# Altium footprint library lsi-computer-systems.PCBLIB: 12 footprints
Each footprint in its own frame and in the unit in brackets; x right, y up, seen from the top. Pads: shape width x height; smd on the part's side, far side on the other; paste and mask are expansions set on the pad; w line width, h text height; cw(c..) or ccw(c..) is an arc to the next point about the centre after c.
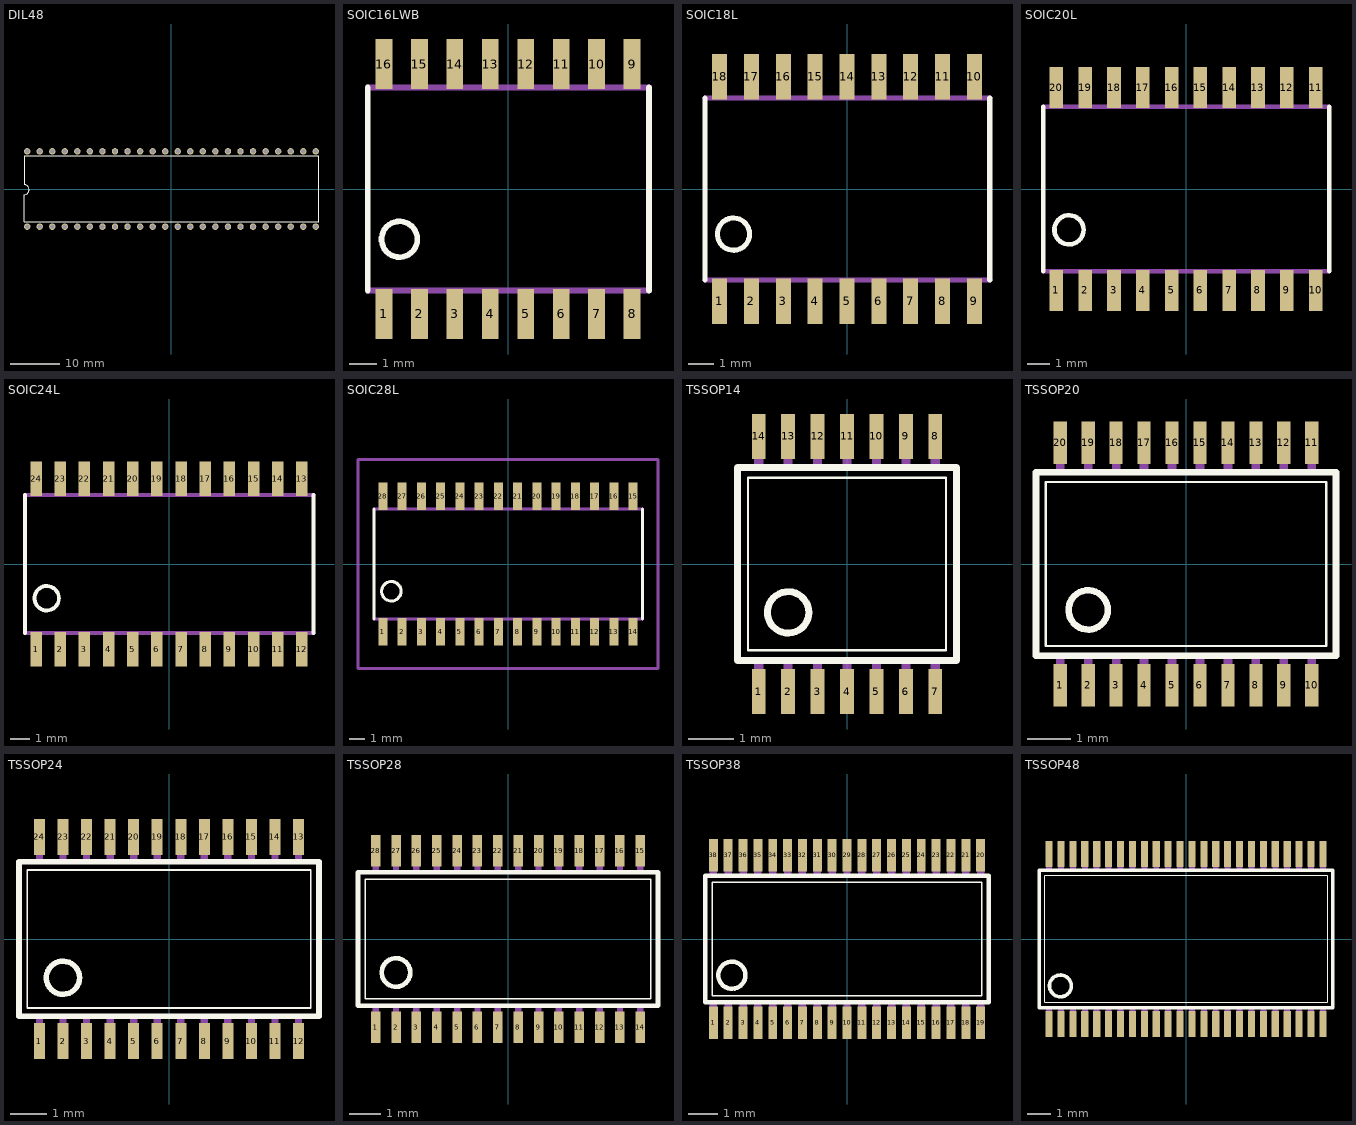
[diagram p0: the footprints below, top view; thin cyan lines are the x and y axes]

## DIL48 [mm]
pads (48):
  round 1.3 hole 0.9: 1(-29.21,-7.62) 2(-26.67,-7.62) 3(-24.13,-7.62) 4(-21.59,-7.62) 5(-19.05,-7.62) 6(-16.51,-7.62) 7(-13.97,-7.62) 8(-11.43,-7.62) 9(-8.89,-7.62) 10(-6.35,-7.62) 11(-3.81,-7.62) 12(-1.27,-7.62) 13(1.27,-7.62) 14(3.81,-7.62) 15(6.35,-7.62) 16(8.89,-7.62) 17(11.43,-7.62) 18(13.97,-7.62) 19(16.51,-7.62) 20(19.05,-7.62) 21(21.59,-7.62) 22(24.13,-7.62) 23(26.67,-7.62) 24(29.21,-7.62) 25(29.21,7.62) 26(26.67,7.62) 27(24.13,7.62) 28(21.59,7.62) 29(19.05,7.62) 30(16.51,7.62) 31(13.97,7.62) 32(11.43,7.62) 33(8.89,7.62) 34(6.35,7.62) 35(3.81,7.62) 36(1.27,7.62) 37(-1.27,7.62) 38(-3.81,7.62) 39(-6.35,7.62) 40(-8.89,7.62) 41(-11.43,7.62) 42(-13.97,7.62) 43(-16.51,7.62) 44(-19.05,7.62) 45(-21.59,7.62) 46(-24.13,7.62) 47(-26.67,7.62) 48(-29.21,7.62)
Top Overlay:
  lines w0.152: -29.845,-6.604 29.845,-6.604 29.845,6.604 -29.845,6.604 -29.845,0.889 cw(c-29.845,-0.127) -29.845,-1.143 -29.845,-6.604

## SOIC16LWB [mm]
pads (16):
  rect 0.6x1.8 smd: 1(-4.445,-4.475) 2(-3.175,-4.475) 3(-1.905,-4.475) 4(-0.635,-4.475) 5(0.635,-4.475) 6(1.905,-4.475) 7(3.175,-4.475) 8(4.445,-4.475) 9(4.445,4.475) 10(3.175,4.475) 11(1.905,4.475) 12(0.635,4.475) 13(-0.635,4.475) 14(-1.905,4.475) 15(-3.175,4.475) 16(-4.445,4.475)
Top Overlay:
  circle w0.203: c-3.89,-1.8 r0.643
  lines w0.203: -5.03,-3.635 -5.03,3.635 ; 5.055,-3.635 5.055,3.635
Mechanical 16:
  rectangle: -4.695,-5.065 -4.195,-3.735
  rectangle: -3.425,-5.065 -2.925,-3.735
  rectangle: -2.155,-5.065 -1.655,-3.735
  rectangle: -0.885,-5.065 -0.385,-3.735
  rectangle: 0.385,-5.065 0.885,-3.735
  rectangle: 1.655,-5.065 2.155,-3.735
  rectangle: 2.925,-5.065 3.425,-3.735
  rectangle: 4.195,-5.065 4.695,-3.735
  region: 4.695,5.065 4.195,5.065 4.195,3.735 4.695,3.735
  region: 3.425,5.065 2.925,5.065 2.925,3.735 3.425,3.735
  region: 2.155,5.065 1.655,5.065 1.655,3.735 2.155,3.735
  region: 0.885,5.065 0.385,5.065 0.385,3.735 0.885,3.735
  region: -0.385,5.065 -0.885,5.065 -0.885,3.735 -0.385,3.735
  region: -1.655,5.065 -2.155,5.065 -2.155,3.735 -1.655,3.735
  rectangle: -3.425,3.735 -2.925,5.065
  rectangle: -4.695,3.735 -4.195,5.065
  lines w0.203: -5.03,-3.635 5.055,-3.635 ; -5.03,3.635 5.055,3.635

## SOIC18L [mm]
pads (18):
  rect 0.6x1.8 smd: 1(-5.08,-4.475) 2(-3.81,-4.475) 3(-2.54,-4.475) 4(-1.27,-4.475) 5(0,-4.475) 6(1.27,-4.475) 7(2.54,-4.475) 8(3.81,-4.475) 9(5.08,-4.475) 10(5.08,4.475) 11(3.81,4.475) 12(2.54,4.475) 13(1.27,4.475) 14(0,4.475) 15(-1.27,4.475) 16(-2.54,4.475) 17(-3.81,4.475) 18(-5.08,4.475)
Top Overlay:
  circle w0.203: c-4.525,-1.8 r0.643
  lines w0.203: -5.665,-3.635 -5.665,3.635 ; 5.69,-3.635 5.69,3.635
Mechanical 16:
  rectangle: -5.33,-5.065 -4.83,-3.735
  rectangle: -4.06,-5.065 -3.56,-3.735
  rectangle: -2.79,-5.065 -2.29,-3.735
  rectangle: -1.52,-5.065 -1.02,-3.735
  rectangle: -0.25,-5.065 0.25,-3.735
  rectangle: 1.02,-5.065 1.52,-3.735
  rectangle: 2.29,-5.065 2.79,-3.735
  rectangle: 3.56,-5.065 4.06,-3.735
  rectangle: 4.83,-5.065 5.33,-3.735
  region: 5.33,5.065 4.83,5.065 4.83,3.735 5.33,3.735
  region: 4.06,5.065 3.56,5.065 3.56,3.735 4.06,3.735
  region: 2.79,5.065 2.29,5.065 2.29,3.735 2.79,3.735
  region: 1.52,5.065 1.02,5.065 1.02,3.735 1.52,3.735
  region: 0.25,5.065 -0.25,5.065 -0.25,3.735 0.25,3.735
  rectangle: -1.52,3.735 -1.02,5.065
  rectangle: -2.79,3.735 -2.29,5.065
  rectangle: -4.06,3.735 -3.56,5.065
  rectangle: -5.33,3.735 -4.83,5.065
  lines w0.203: -5.665,-3.635 5.69,-3.635 ; -5.665,3.635 5.69,3.635

## SOIC20L [mm]
pads (20):
  rect 0.6x1.8 smd: 1(-5.715,-4.475) 2(-4.445,-4.475) 3(-3.175,-4.475) 4(-1.905,-4.475) 5(-0.635,-4.475) 6(0.635,-4.475) 7(1.905,-4.475) 8(3.175,-4.475) 9(4.445,-4.475) 10(5.715,-4.475) 11(5.715,4.475) 12(4.445,4.475) 13(3.175,4.475) 14(1.905,4.475) 15(0.635,4.475) 16(-0.635,4.475) 17(-1.905,4.475) 18(-3.175,4.475) 19(-4.445,4.475) 20(-5.715,4.475)
Top Overlay:
  circle w0.203: c-5.16,-1.8 r0.643
  lines w0.203: -6.3,-3.635 -6.3,3.635 ; 6.325,-3.635 6.325,3.635
Mechanical 16:
  rectangle: -5.965,-5.065 -5.465,-3.735
  rectangle: -4.695,-5.065 -4.195,-3.735
  rectangle: -3.425,-5.065 -2.925,-3.735
  rectangle: -2.155,-5.065 -1.655,-3.735
  rectangle: -0.885,-5.065 -0.385,-3.735
  rectangle: 0.385,-5.065 0.885,-3.735
  rectangle: 1.655,-5.065 2.155,-3.735
  rectangle: 2.925,-5.065 3.425,-3.735
  rectangle: 4.195,-5.065 4.695,-3.735
  rectangle: 5.465,-5.065 5.965,-3.735
  region: 5.965,5.065 5.465,5.065 5.465,3.735 5.965,3.735
  region: 4.695,5.065 4.195,5.065 4.195,3.735 4.695,3.735
  region: 3.425,5.065 2.925,5.065 2.925,3.735 3.425,3.735
  region: 2.155,5.065 1.655,5.065 1.655,3.735 2.155,3.735
  rectangle: 0.385,3.735 0.885,5.065
  rectangle: -0.885,3.735 -0.385,5.065
  rectangle: -2.155,3.735 -1.655,5.065
  rectangle: -3.425,3.735 -2.925,5.065
  rectangle: -4.695,3.735 -4.195,5.065
  rectangle: -5.965,3.735 -5.465,5.065
  lines w0.203: -6.3,-3.635 6.325,-3.635 ; -6.3,3.635 6.325,3.635

## SOIC24L [mm]
pads (24):
  rect 0.6x1.8 smd: 1(-6.985,-4.475) 2(-5.715,-4.475) 3(-4.445,-4.475) 4(-3.175,-4.475) 5(-1.905,-4.475) 6(-0.635,-4.475) 7(0.635,-4.475) 8(1.905,-4.475) 9(3.175,-4.475) 10(4.445,-4.475) 11(5.715,-4.475) 12(6.985,-4.475) 13(6.985,4.475) 14(5.715,4.475) 15(4.445,4.475) 16(3.175,4.475) 17(1.905,4.475) 18(0.635,4.475) 19(-0.635,4.475) 20(-1.905,4.475) 21(-3.175,4.475) 22(-4.445,4.475) 23(-5.715,4.475) 24(-6.985,4.475)
Top Overlay:
  circle w0.203: c-6.43,-1.8 r0.643
  lines w0.203: -7.57,-3.635 -7.57,3.635 ; 7.595,-3.635 7.595,3.635
Mechanical 16:
  rectangle: -7.235,-5.065 -6.735,-3.735
  rectangle: -5.965,-5.065 -5.465,-3.735
  rectangle: -4.695,-5.065 -4.195,-3.735
  rectangle: -3.425,-5.065 -2.925,-3.735
  rectangle: -2.155,-5.065 -1.655,-3.735
  rectangle: -0.885,-5.065 -0.385,-3.735
  rectangle: 0.385,-5.065 0.885,-3.735
  rectangle: 1.655,-5.065 2.155,-3.735
  rectangle: 2.925,-5.065 3.425,-3.735
  rectangle: 4.195,-5.065 4.695,-3.735
  rectangle: 5.465,-5.065 5.965,-3.735
  rectangle: 6.735,-5.065 7.235,-3.735
  region: 7.235,5.065 6.735,5.065 6.735,3.735 7.235,3.735
  region: 5.965,5.065 5.465,5.065 5.465,3.735 5.965,3.735
  rectangle: 4.195,3.735 4.695,5.065
  rectangle: 2.925,3.735 3.425,5.065
  rectangle: 1.655,3.735 2.155,5.065
  rectangle: 0.385,3.735 0.885,5.065
  rectangle: -0.885,3.735 -0.385,5.065
  rectangle: -2.155,3.735 -1.655,5.065
  rectangle: -3.425,3.735 -2.925,5.065
  rectangle: -4.695,3.735 -4.195,5.065
  rectangle: -5.965,3.735 -5.465,5.065
  rectangle: -7.235,3.735 -6.735,5.065
  lines w0.203: -7.57,-3.635 7.595,-3.635 ; -7.57,3.635 7.595,3.635

## SOIC28L [mm]
pads (28):
  rect 0.6x1.8 smd: 1(-8.255,-4.475) 2(-6.985,-4.475) 3(-5.715,-4.475) 4(-4.445,-4.475) 5(-3.175,-4.475) 6(-1.905,-4.475) 7(-0.635,-4.475) 8(0.635,-4.475) 9(1.905,-4.475) 10(3.175,-4.475) 11(4.445,-4.475) 12(5.715,-4.475) 13(6.985,-4.475) 14(8.255,-4.475) 15(8.255,4.475) 16(6.985,4.475) 17(5.715,4.475) 18(4.445,4.475) 19(3.175,4.475) 20(1.905,4.475) 21(0.635,4.475) 22(-0.635,4.475) 23(-1.905,4.475) 24(-3.175,4.475) 25(-4.445,4.475) 26(-5.715,4.475) 27(-6.985,4.475) 28(-8.255,4.475)
Top Overlay:
  circle w0.203: c-7.7,-1.8 r0.643
  lines w0.203: -8.84,-3.635 -8.84,3.635 ; 8.865,-3.635 8.865,3.635
Mechanical 16:
  rectangle: -8.505,-5.065 -8.005,-3.735
  rectangle: -7.235,-5.065 -6.735,-3.735
  rectangle: -5.965,-5.065 -5.465,-3.735
  rectangle: -4.695,-5.065 -4.195,-3.735
  rectangle: -3.425,-5.065 -2.925,-3.735
  rectangle: -2.155,-5.065 -1.655,-3.735
  rectangle: -0.885,-5.065 -0.385,-3.735
  rectangle: 0.385,-5.065 0.885,-3.735
  rectangle: 1.655,-5.065 2.155,-3.735
  rectangle: 2.925,-5.065 3.425,-3.735
  rectangle: 4.195,-5.065 4.695,-3.735
  rectangle: 5.465,-5.065 5.965,-3.735
  rectangle: 6.735,-5.065 7.235,-3.735
  rectangle: 8.005,-5.065 8.505,-3.735
  rectangle: 8.005,3.735 8.505,5.065
  rectangle: 6.735,3.735 7.235,5.065
  rectangle: 5.465,3.735 5.965,5.065
  rectangle: 4.195,3.735 4.695,5.065
  rectangle: 2.925,3.735 3.425,5.065
  rectangle: 1.655,3.735 2.155,5.065
  rectangle: 0.385,3.735 0.885,5.065
  rectangle: -0.885,3.735 -0.385,5.065
  rectangle: -2.155,3.735 -1.655,5.065
  rectangle: -3.425,3.735 -2.925,5.065
  rectangle: -4.695,3.735 -4.195,5.065
  rectangle: -5.965,3.735 -5.465,5.065
  rectangle: -7.235,3.735 -6.735,5.065
  rectangle: -8.505,3.735 -8.005,5.065
  lines w0.203: -8.84,-3.635 8.865,-3.635 ; -8.84,3.635 8.865,3.635
Mechanical 27:
  lines w0.2: -9.9,-6.9 -9.9,6.9 9.9,6.9 9.9,-6.9 -9.9,-6.9

## TSSOP14 [mil]
pads (14):
  rect 12x39 smd: 1(-76.77,-110.94) 2(-51.18,-110.94) 3(-25.59,-110.94) 4(0,-110.94) 5(25.59,-110.94) 6(51.18,-110.94) 7(76.77,-110.94) 8(76.77,110.94) 9(51.18,110.94) 10(25.59,110.94) 11(0,110.94) 12(-25.59,110.94) 13(-51.18,110.94) 14(-76.77,110.94)
Top Overlay:
  circle w6: c-51.2,-42.09 r18
  lines w2: -86.06,-74.97 86.06,-74.97 86.06,74.97 -86.06,74.97 -86.06,-74.97
  lines w6: -95.06,-83.97 95.06,-83.97 95.06,83.97 -95.06,83.97 -95.06,-83.97
Mechanical 16:
  rectangle: -80.77,-125.98 -72.77,-83.97
  rectangle: -55.18,-125.98 -47.18,-83.97
  rectangle: -29.59,-125.98 -21.59,-83.97
  rectangle: -4,-125.98 4,-83.97
  rectangle: 21.59,-125.98 29.59,-83.97
  rectangle: 47.18,-125.98 55.18,-83.97
  rectangle: 72.77,-125.98 80.77,-83.97
  region: 80.77,125.98 72.77,125.98 72.77,83.97 80.77,83.97
  region: 55.18,125.98 47.18,125.98 47.18,83.97 55.18,83.97
  region: 29.59,125.98 21.59,125.98 21.59,83.97 29.59,83.97
  region: 4,125.98 -4,125.98 -4,83.97 4,83.97
  region: -21.59,125.98 -29.59,125.98 -29.59,83.97 -21.59,83.97
  region: -47.18,125.98 -55.18,125.98 -55.18,83.97 -47.18,83.97
  region: -72.77,125.98 -80.77,125.98 -80.77,83.97 -72.77,83.97

## TSSOP20 [mil]
pads (20):
  rect 12x39 smd: 1(-115.16,-110.94) 2(-89.57,-110.94) 3(-63.98,-110.94) 4(-38.39,-110.94) 5(-12.8,-110.94) 6(12.8,-110.94) 7(38.39,-110.94) 8(63.98,-110.94) 9(89.57,-110.94) 10(115.16,-110.94) 11(115.16,110.94) 12(89.57,110.94) 13(63.98,110.94) 14(38.39,110.94) 15(12.8,110.94) 16(-12.8,110.94) 17(-38.39,110.94) 18(-63.98,110.94) 19(-89.57,110.94) 20(-115.16,110.94)
Top Overlay:
  circle w6: c-89.59,-42.09 r18
  lines w2: -128.39,-74.97 128.39,-74.97 128.39,74.97 -128.39,74.97 -128.39,-74.97
  lines w6: -137.39,-83.97 137.39,-83.97 137.39,83.97 -137.39,83.97 -137.39,-83.97
Mechanical 16:
  rectangle: -119.16,-125.98 -111.16,-83.97
  rectangle: -93.57,-125.98 -85.57,-83.97
  rectangle: -67.98,-125.98 -59.98,-83.97
  rectangle: -42.39,-125.98 -34.39,-83.97
  rectangle: -16.8,-125.98 -8.8,-83.97
  rectangle: 8.8,-125.98 16.8,-83.97
  rectangle: 34.39,-125.98 42.39,-83.97
  rectangle: 59.98,-125.98 67.98,-83.97
  rectangle: 85.57,-125.98 93.57,-83.97
  rectangle: 111.16,-125.98 119.16,-83.97
  region: 119.16,125.98 111.16,125.98 111.16,83.97 119.16,83.97
  region: 93.57,125.98 85.57,125.98 85.57,83.97 93.57,83.97
  region: 67.98,125.98 59.98,125.98 59.98,83.97 67.98,83.97
  region: 42.39,125.98 34.39,125.98 34.39,83.97 42.39,83.97
  rectangle: 8.8,83.97 16.8,125.98
  rectangle: -16.8,83.97 -8.8,125.98
  rectangle: -42.39,83.97 -34.39,125.98
  rectangle: -67.98,83.97 -59.98,125.98
  rectangle: -93.57,83.97 -85.57,125.98
  rectangle: -119.16,83.97 -111.16,125.98

## TSSOP24 [mil]
pads (24):
  rect 12x39 smd: 1(-140.75,-110.94) 2(-115.16,-110.94) 3(-89.57,-110.94) 4(-63.98,-110.94) 5(-38.39,-110.94) 6(-12.8,-110.94) 7(12.8,-110.94) 8(38.39,-110.94) 9(63.98,-110.94) 10(89.57,-110.94) 11(115.16,-110.94) 12(140.75,-110.94) 13(140.75,110.94) 14(115.16,110.94) 15(89.57,110.94) 16(63.98,110.94) 17(38.39,110.94) 18(12.8,110.94) 19(-12.8,110.94) 20(-38.39,110.94) 21(-63.98,110.94) 22(-89.57,110.94) 23(-115.16,110.94) 24(-140.75,110.94)
Top Overlay:
  circle w6: c-115.18,-42.09 r18
  lines w2: -153.98,-74.97 153.98,-74.97 153.98,74.97 -153.98,74.97 -153.98,-74.97
  lines w6: -162.98,-83.97 162.98,-83.97 162.98,83.97 -162.98,83.97 -162.98,-83.97
Mechanical 16:
  rectangle: -144.75,-125.98 -136.75,-83.97
  rectangle: -119.16,-125.98 -111.16,-83.97
  rectangle: -93.57,-125.98 -85.57,-83.97
  rectangle: -67.98,-125.98 -59.98,-83.97
  rectangle: -42.39,-125.98 -34.39,-83.97
  rectangle: -16.8,-125.98 -8.8,-83.97
  rectangle: 8.8,-125.98 16.8,-83.97
  rectangle: 34.39,-125.98 42.39,-83.97
  rectangle: 59.98,-125.98 67.98,-83.97
  rectangle: 85.57,-125.98 93.57,-83.97
  rectangle: 111.16,-125.98 119.16,-83.97
  rectangle: 136.75,-125.98 144.75,-83.97
  region: 144.75,125.98 136.75,125.98 136.75,83.97 144.75,83.97
  region: 119.16,125.98 111.16,125.98 111.16,83.97 119.16,83.97
  rectangle: 85.57,83.97 93.57,125.98
  rectangle: 59.98,83.97 67.98,125.98
  rectangle: 34.39,83.97 42.39,125.98
  rectangle: 8.8,83.97 16.8,125.98
  rectangle: -16.8,83.97 -8.8,125.98
  rectangle: -42.39,83.97 -34.39,125.98
  rectangle: -67.98,83.97 -59.98,125.98
  rectangle: -93.57,83.97 -85.57,125.98
  rectangle: -119.16,83.97 -111.16,125.98
  rectangle: -144.75,83.97 -136.75,125.98

## TSSOP28 [mil]
pads (28):
  rect 12x39 smd: 1(-166.34,-110.94) 2(-140.75,-110.94) 3(-115.16,-110.94) 4(-89.57,-110.94) 5(-63.98,-110.94) 6(-38.39,-110.94) 7(-12.8,-110.94) 8(12.8,-110.94) 9(38.39,-110.94) 10(63.98,-110.94) 11(89.57,-110.94) 12(115.16,-110.94) 13(140.75,-110.94) 14(166.34,-110.94) 15(166.34,110.94) 16(140.75,110.94) 17(115.16,110.94) 18(89.57,110.94) 19(63.98,110.94) 20(38.39,110.94) 21(12.8,110.94) 22(-12.8,110.94) 23(-38.39,110.94) 24(-63.98,110.94) 25(-89.57,110.94) 26(-115.16,110.94) 27(-140.75,110.94) 28(-166.34,110.94)
Top Overlay:
  circle w6: c-140.77,-42.09 r18
  lines w2: -179.57,-74.97 179.57,-74.97 179.57,74.97 -179.57,74.97 -179.57,-74.97
  lines w6: -188.57,-83.97 188.57,-83.97 188.57,83.97 -188.57,83.97 -188.57,-83.97
Mechanical 16:
  rectangle: -170.34,-125.98 -162.34,-83.97
  rectangle: -144.75,-125.98 -136.75,-83.97
  rectangle: -119.16,-125.98 -111.16,-83.97
  rectangle: -93.57,-125.98 -85.57,-83.97
  rectangle: -67.98,-125.98 -59.98,-83.97
  rectangle: -42.39,-125.98 -34.39,-83.97
  rectangle: -16.8,-125.98 -8.8,-83.97
  rectangle: 8.8,-125.98 16.8,-83.97
  rectangle: 34.39,-125.98 42.39,-83.97
  rectangle: 59.98,-125.98 67.98,-83.97
  rectangle: 85.57,-125.98 93.57,-83.97
  rectangle: 111.16,-125.98 119.16,-83.97
  rectangle: 136.75,-125.98 144.75,-83.97
  rectangle: 162.34,-125.98 170.34,-83.97
  rectangle: 162.34,83.97 170.34,125.98
  rectangle: 136.75,83.97 144.75,125.98
  rectangle: 111.16,83.97 119.16,125.98
  rectangle: 85.57,83.97 93.57,125.98
  rectangle: 59.98,83.97 67.98,125.98
  rectangle: 34.39,83.97 42.39,125.98
  rectangle: 8.8,83.97 16.8,125.98
  rectangle: -16.8,83.97 -8.8,125.98
  rectangle: -42.39,83.97 -34.39,125.98
  rectangle: -67.98,83.97 -59.98,125.98
  rectangle: -93.57,83.97 -85.57,125.98
  rectangle: -119.16,83.97 -111.16,125.98
  rectangle: -144.75,83.97 -136.75,125.98
  rectangle: -170.34,83.97 -162.34,125.98

## TSSOP38 [mm]
pads (38):
  rect 0.3x1.1 smd: 1(-4.5,-2.825) 2(-4,-2.825) 3(-3.5,-2.825) 4(-3,-2.825) 5(-2.5,-2.825) 6(-2,-2.825) 7(-1.5,-2.825) 8(-1,-2.825) 9(-0.5,-2.825) 10(0,-2.825) 11(0.5,-2.825) 12(1,-2.825) 13(1.5,-2.825) 14(2,-2.825) 15(2.5,-2.825) 16(3,-2.825) 17(3.5,-2.825) 18(4,-2.825) 19(4.5,-2.825) 20(4.5,2.825) 21(4,2.825) 22(3.5,2.825) 23(3,2.825) 24(2.5,2.825) 25(2,2.825) 26(1.5,2.825) 27(1,2.825) 28(0.5,2.825) 29(0,2.825) 30(-0.5,2.825) 31(-1,2.825) 32(-1.5,2.825) 33(-2,2.825) 34(-2.5,2.825) 35(-3,2.825) 36(-3.5,2.825) 37(-4,2.825) 38(-4.5,2.825)
Top Overlay:
  circle w0.152: c-3.876,-1.219 r0.457
  lines w0.051: -4.536,-1.904 4.536,-1.904 4.536,1.904 -4.536,1.904 -4.536,-1.904
  lines w0.152: -4.765,-2.133 4.765,-2.133 4.765,2.133 -4.765,2.133 -4.765,-2.133
Mechanical 16:
  rectangle: -4.625,-3.2 -4.375,-2.133
  rectangle: -4.125,-3.2 -3.875,-2.133
  rectangle: -3.625,-3.2 -3.375,-2.133
  rectangle: -3.125,-3.2 -2.875,-2.133
  rectangle: -2.625,-3.2 -2.375,-2.133
  rectangle: -2.125,-3.2 -1.875,-2.133
  rectangle: -1.625,-3.2 -1.375,-2.133
  rectangle: -1.125,-3.2 -0.875,-2.133
  rectangle: -0.625,-3.2 -0.375,-2.133
  rectangle: -0.125,-3.2 0.125,-2.133
  rectangle: 0.375,-3.2 0.625,-2.133
  rectangle: 0.875,-3.2 1.125,-2.133
  rectangle: 1.375,-3.2 1.625,-2.133
  rectangle: 1.875,-3.2 2.125,-2.133
  rectangle: 2.375,-3.2 2.625,-2.133
  rectangle: 2.875,-3.2 3.125,-2.133
  rectangle: 3.375,-3.2 3.625,-2.133
  rectangle: 3.875,-3.2 4.125,-2.133
  rectangle: 4.375,-3.2 4.625,-2.133
  region: 4.625,3.2 4.375,3.2 4.375,2.133 4.625,2.133
  region: 4.125,3.2 3.875,3.2 3.875,2.133 4.125,2.133
  region: 3.625,3.2 3.375,3.2 3.375,2.133 3.625,2.133
  region: 3.125,3.2 2.875,3.2 2.875,2.133 3.125,2.133
  region: 2.625,3.2 2.375,3.2 2.375,2.133 2.625,2.133
  region: 2.125,3.2 1.875,3.2 1.875,2.133 2.125,2.133
  region: 1.625,3.2 1.375,3.2 1.375,2.133 1.625,2.133
  region: 1.125,3.2 0.875,3.2 0.875,2.133 1.125,2.133
  region: 0.625,3.2 0.375,3.2 0.375,2.133 0.625,2.133
  region: 0.125,3.2 -0.125,3.2 -0.125,2.133 0.125,2.133
  region: -0.375,3.2 -0.625,3.2 -0.625,2.133 -0.375,2.133
  region: -0.875,3.2 -1.125,3.2 -1.125,2.133 -0.875,2.133
  region: -1.375,3.2 -1.625,3.2 -1.625,2.133 -1.375,2.133
  region: -1.875,3.2 -2.125,3.2 -2.125,2.133 -1.875,2.133
  region: -2.375,3.2 -2.625,3.2 -2.625,2.133 -2.375,2.133
  region: -2.875,3.2 -3.125,3.2 -3.125,2.133 -2.875,2.133
  region: -3.375,3.2 -3.625,3.2 -3.625,2.133 -3.375,2.133
  region: -3.875,3.2 -4.125,3.2 -4.125,2.133 -3.875,2.133
  region: -4.375,3.2 -4.625,3.2 -4.625,2.133 -4.375,2.133

## TSSOP48 [mm]
pads (48):
  rect 0.3x1.1 smd: 1(-5.75,-3.575) 2(-5.25,-3.575) 3(-4.75,-3.575) 4(-4.25,-3.575) 5(-3.75,-3.575) 6(-3.25,-3.575) 7(-2.75,-3.575) 8(-2.25,-3.575) 9(-1.75,-3.575) 10(-1.25,-3.575) 11(-0.75,-3.575) 12(-0.25,-3.575) 13(0.25,-3.575) 14(0.75,-3.575) 15(1.25,-3.575) 16(1.75,-3.575) 17(2.25,-3.575) 18(2.75,-3.575) 19(3.25,-3.575) 20(3.75,-3.575) 21(4.25,-3.575) 22(4.75,-3.575) 23(5.25,-3.575) 24(5.75,-3.575) 25(5.75,3.575) 26(5.25,3.575) 27(4.75,3.575) 28(4.25,3.575) 29(3.75,3.575) 30(3.25,3.575) 31(2.75,3.575) 32(2.25,3.575) 33(1.75,3.575) 34(1.25,3.575) 35(0.75,3.575) 36(0.25,3.575) 37(-0.25,3.575) 38(-0.75,3.575) 39(-1.25,3.575) 40(-1.75,3.575) 41(-2.25,3.575) 42(-2.75,3.575) 43(-3.25,3.575) 44(-3.75,3.575) 45(-4.25,3.575) 46(-4.75,3.575) 47(-5.25,3.575) 48(-5.75,3.575)
Top Overlay:
  circle w0.152: c-5.276,-1.969 r0.457
  lines w0.051: -5.936,-2.654 5.936,-2.654 5.936,2.654 -5.936,2.654 -5.936,-2.654
  lines w0.152: -6.165,-2.883 6.165,-2.883 6.165,2.883 -6.165,2.883 -6.165,-2.883
Mechanical 16:
  rectangle: -5.875,-3.95 -5.625,-2.883
  rectangle: -5.375,-3.95 -5.125,-2.883
  rectangle: -4.875,-3.95 -4.625,-2.883
  rectangle: -4.375,-3.95 -4.125,-2.883
  rectangle: -3.875,-3.95 -3.625,-2.883
  rectangle: -3.375,-3.95 -3.125,-2.883
  rectangle: -2.875,-3.95 -2.625,-2.883
  rectangle: -2.375,-3.95 -2.125,-2.883
  rectangle: -1.875,-3.95 -1.625,-2.883
  rectangle: -1.375,-3.95 -1.125,-2.883
  rectangle: -0.875,-3.95 -0.625,-2.883
  rectangle: -0.375,-3.95 -0.125,-2.883
  rectangle: 0.125,-3.95 0.375,-2.883
  rectangle: 0.625,-3.95 0.875,-2.883
  rectangle: 1.125,-3.95 1.375,-2.883
  rectangle: 1.625,-3.95 1.875,-2.883
  rectangle: 2.125,-3.95 2.375,-2.883
  rectangle: 2.625,-3.95 2.875,-2.883
  rectangle: 3.125,-3.95 3.375,-2.883
  rectangle: 3.625,-3.95 3.875,-2.883
  rectangle: 4.125,-3.95 4.375,-2.883
  rectangle: 4.625,-3.95 4.875,-2.883
  rectangle: 5.125,-3.95 5.375,-2.883
  rectangle: 5.625,-3.95 5.875,-2.883
  region: 5.875,3.95 5.625,3.95 5.625,2.883 5.875,2.883
  region: 5.375,3.95 5.125,3.95 5.125,2.883 5.375,2.883
  region: 4.875,3.95 4.625,3.95 4.625,2.883 4.875,2.883
  region: 4.375,3.95 4.125,3.95 4.125,2.883 4.375,2.883
  region: 3.875,3.95 3.625,3.95 3.625,2.883 3.875,2.883
  region: 3.375,3.95 3.125,3.95 3.125,2.883 3.375,2.883
  region: 2.875,3.95 2.625,3.95 2.625,2.883 2.875,2.883
  region: 2.375,3.95 2.125,3.95 2.125,2.883 2.375,2.883
  region: 1.875,3.95 1.625,3.95 1.625,2.883 1.875,2.883
  region: 1.375,3.95 1.125,3.95 1.125,2.883 1.375,2.883
  region: 0.875,3.95 0.625,3.95 0.625,2.883 0.875,2.883
  region: 0.375,3.95 0.125,3.95 0.125,2.883 0.375,2.883
  region: -0.125,3.95 -0.375,3.95 -0.375,2.883 -0.125,2.883
  region: -0.625,3.95 -0.875,3.95 -0.875,2.883 -0.625,2.883
  region: -1.125,3.95 -1.375,3.95 -1.375,2.883 -1.125,2.883
  region: -1.625,3.95 -1.875,3.95 -1.875,2.883 -1.625,2.883
  region: -2.125,3.95 -2.375,3.95 -2.375,2.883 -2.125,2.883
  region: -2.625,3.95 -2.875,3.95 -2.875,2.883 -2.625,2.883
  region: -3.125,3.95 -3.375,3.95 -3.375,2.883 -3.125,2.883
  region: -3.625,3.95 -3.875,3.95 -3.875,2.883 -3.625,2.883
  region: -4.125,3.95 -4.375,3.95 -4.375,2.883 -4.125,2.883
  region: -4.625,3.95 -4.875,3.95 -4.875,2.883 -4.625,2.883
  region: -5.125,3.95 -5.375,3.95 -5.375,2.883 -5.125,2.883
  region: -5.625,3.95 -5.875,3.95 -5.875,2.883 -5.625,2.883